# Altium footprint library Relay Module.PcbLib: 8 footprints
Each footprint in its own frame and in the unit in brackets; x right, y up, seen from the top. Pads: shape width x height; smd on the part's side, far side on the other; paste and mask are expansions set on the pad; w line width, h text height; cw(c..) or ccw(c..) is an arc to the next point about the centre after c.
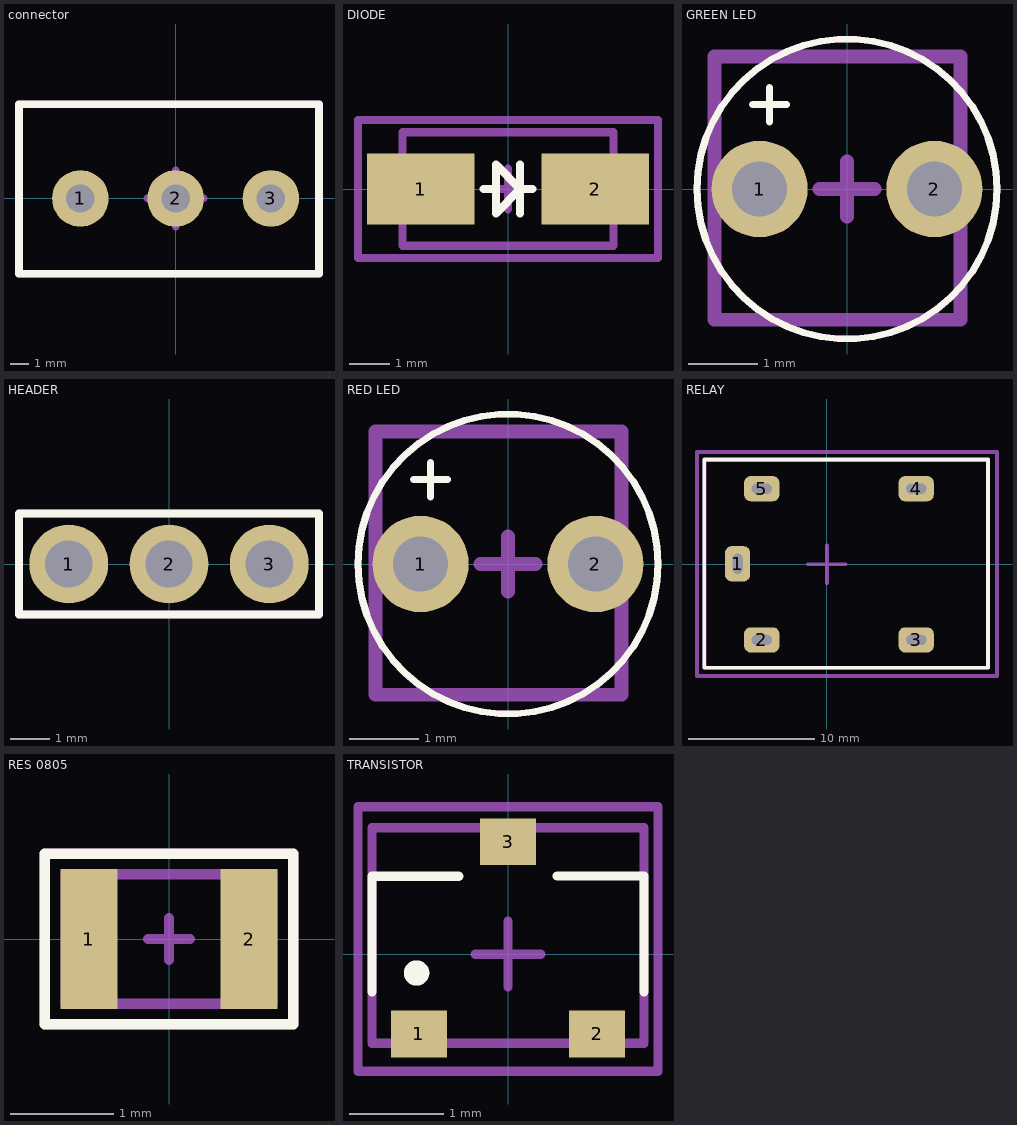
[diagram p0: the footprints below, top view; thin cyan lines are the x and y axes]

## connector [mm]
pads (3):
  round 3 hole 1.5 mask+0.05: 1(-5.05,0) 2(0,0) 3(5.05,0)
Top Overlay:
  lines w0.4: -8.3,-4 -8.3,5 7.6,5 7.6,-4 -8.3,-4
Top 3D Body:
  lines w0.4: -8.3,-4 7.6,-4 7.6,5 -8.3,5 -8.3,-4
Top Component Center:
  lines w0.4: -1.5,0 0,0 ; 0,-1.5 0,0 ; 0,1.5 0,0 ; 1.5,0 0,0 ; -8.3,-4 7.6,-4 7.6,5 -8.3,5 -8.3,-4
Top Designator:
  lines w0.4: -8.3,-4 7.6,-4 7.6,5 -8.3,5 -8.3,-4
  text ".Designator" at 0.4,-0.634 h2
3D body "User Library-OSTTA034163.STEP": height 13, standoff -4, extent -8.32,-4 7.62,5

## DIODE [mm]
pads (2):
  rect 2.65x1.75 smd mask+0.05: 1(-2.15,0) 2(2.15,0)
Top Overlay:
  lines w0.2: -0.6,0 -0.3,0 ; 0.3,-0.6 0.3,0 ; 0.6,0 0.3,0 ; -0.3,0 -0.3,0.6 0.3,0 ; -0.3,0 -0.3,-0.6 0.3,0 ; 0.3,0 0.3,0.6 0.3,0
Top 3D Body:
  lines w0.2: -2.6,-1.4 2.6,-1.4 2.6,1.4 -2.6,1.4 -2.6,-1.4
Top Component Center:
  lines w0.2: -0.5,0 0,0 ; 0,-0.5 0,0 ; 0,0.5 0,0 ; 0.5,0 0,0 ; -3.7,-1.7 -3.7,1.7 3.7,1.7 3.7,-1.7 -3.7,-1.7
Top Designator:
  lines w0.2: -3.7,-1.7 3.7,-1.7 3.7,1.7 -3.7,1.7 -3.7,-1.7
  text ".Designator" at -0.6,-0.6 h1.5
3D body "S1A.STEP": height 2.5, standoff 0, extent -2.6,-1.362 2.6,1.362

## GREEN LED [mm]
pads (2):
  round 1.4 hole 0.8 mask+0.05: 1(-1.27,0) 2(1.27,0)
Top Overlay:
  circle w0.1: c0,0 r2.178
  lines w0.1: -1.375,1.225 -0.875,1.225 ; -1.125,0.975 -1.125,1.475
Top 3D Body:
  lines w0.2: -1.925,-1.9 -1.925,1.925 1.65,1.925 1.65,-1.9 -1.925,-1.9
Top Component Center:
  circle w0.1: c0,0 r2.178
  lines w0.2: -0.4,0 0,0 ; 0,-0.4 0,0 ; 0,0.4 0,0 ; 0.4,0 0,0
Top Designator:
  circle w0.1: c0,0 r2.178
  text ".Designator" at -1,-0.675 h1.5
3D body "Download_STP_WL-TMRC-3mm_rev1.stp": height 5.3, standoff -26.4, extent -1.925,-1.917 1.645,1.917

## HEADER [mm]
pads (3):
  round 2 hole 1.2 mask+0.05: 1(-2.54,0) 2(0,0) 3(2.54,0)
Top Overlay:
  lines w0.2: -3.8,-1.275 3.8,-1.275 ; -3.8,-1.275 -3.8,1.275 ; -3.8,-1.275 3.8,-1.275 ; -3.8,-1.275 -3.8,1.275 ; -3.8,1.275 3.8,1.275 ; -3.8,1.275 3.8,1.275 ; 3.8,-1.275 3.8,1.275
Top 3D Body:
  lines w0.2: -3.8,-1.275 3.8,-1.275 3.8,1.275 -3.8,1.275 -3.8,-1.275
Top Component Center:
  lines w0.2: -0.675,0 0,0 ; 0,-0.675 0,0 ; 0,0.675 0,0 ; 0.675,0 0,0 ; -3.8,-1.275 3.8,-1.275 3.8,1.275 -3.8,1.275 -3.8,-1.275
Top Designator:
  lines w0.2: -3.8,-1.275 -3.8,1.275 3.8,1.275 3.8,-1.275 -3.8,-1.275
  text ".Designator" at 0.075,-0.367 h1
3D body "61300311121_Download_STP_61300311121_rev1.stp": height 8.57, standoff -2.97, extent -3.81,-1.27 3.81,1.27

## RED LED [mm]
pads (2):
  round 1.4 hole 0.8 mask+0.05: 1(-1.27,0) 2(1.27,0)
Top Overlay:
  circle w0.1: c0,0 r2.178
  lines w0.1: -1.375,1.225 -0.875,1.225 ; -1.125,0.975 -1.125,1.475
Top 3D Body:
  lines w0.2: -1.925,-1.9 -1.925,1.925 1.65,1.925 1.65,-1.9 -1.925,-1.9
Top Component Center:
  circle w0.1: c0,0 r2.178
  lines w0.2: -0.4,0 0,0 ; 0,-0.4 0,0 ; 0,0.4 0,0 ; 0.4,0 0,0
Top Designator:
  circle w0.1: c0,0 r2.178
  text ".Designator" at -1,-0.675 h1.5
3D body "Download_STP_WL-TMRC-3mm_rev1.stp": height 5.3, standoff -26.4, extent -1.925,-1.917 1.645,1.917

## RELAY [mm]
pads (5):
  rrect50% 2x2.8 hole 0.8 slot 1.6 at 90 deg mask+0.05: 1(-7.1,0.038)
  rrect50% 2.8x2 hole 0.8 slot 1.6 at 0 deg mask+0.05: 2(-5.175,-6.013) 3(7.1,-6.013) 4(7.1,6.013) 5(-5.175,6.013)
Top Overlay:
  lines w0.3: -9.75,-8.225 -9.75,8.325 12.8,8.325 12.8,-8.225 -9.75,-8.225
Top 3D Body:
  lines w0.3: -9.725,-8.225 -9.725,8.3 12.8,8.3 12.8,-8.225 -9.725,-8.225
Top Component Center:
  lines w0.3: -1.5,0 0,0 ; 0,-1.5 0,0 ; 0,1.5 0,0 ; 1.5,0 0,0 ; -10.325,-8.875 -10.325,8.925 13.525,8.925 13.525,-8.875 -10.325,-8.875
Top Designator:
  lines w0.3: -10.325,-8.875 -10.325,8.925 13.525,8.925 13.525,-8.875 -10.325,-8.875
  text ".Designator" at -1.05,-2.242 h4
3D body "G5LE-1 DC5--3DModel-STEP-1.STEP": height 19, standoff -3.5, extent -9.675,-8.213 12.825,8.287

## RES 0805 [mm]
pads (2):
  rect 0.55x1.35 smd mask+0.05: 1(-0.775,0) 2(0.775,0)
Top Overlay:
  lines w0.1: -1.2,-0.825 -1.2,0.825 1.2,0.825 1.2,-0.825 -1.2,-0.825
Top 3D Body:
  lines w0.1: -1,-0.625 -1,0.625 1,0.625 1,-0.625 -1,-0.625
Top Component Center:
  lines w0.1: -0.2,0 0,0 ; 0,-0.2 0,0 ; 0,0.2 0,0 ; 0.2,0 0,0 ; -1.2,-0.825 -1.2,0.825 1.2,0.825 1.2,-0.825 -1.2,-0.825
Top Designator:
  lines w0.1: -1.2,-0.825 -1.2,0.825 1.2,0.825 1.2,-0.825 -1.2,-0.825
  text ".Designator" at -0.295,-0.295 h0.6
3D body "RC0805FR-07100RL.step": height 0.6, standoff 0, extent -1,-0.625 1,0.625

## TRANSISTOR [mm]
pads (3):
  rect 0.6x0.5 smd mask+0.05: 1(-0.95,-0.85) 2(0.95,-0.85) 3(0,1.2)
Top Overlay:
  circle w0.2: c-0.975,-0.2 r0.035
  lines w0.1: -1.45,-0.4 -1.45,0.832 -0.525,0.832 ; 0.525,0.835 1.45,0.835 1.45,-0.4
Top 3D Body:
  lines w0.1: -1.45,-0.95 -1.45,1.35 1.45,1.35 1.45,-0.95 -1.45,-0.95
Top Component Center:
  lines w0.1: -0.35,0 0,0 ; 0,-0.35 0,0 ; 0,0.35 0,0 ; 0.35,0 0,0 ; -1.6,-1.25 -1.6,1.575 1.6,1.575 1.6,-1.25 -1.6,-1.25
Top Designator:
  lines w0.1: -1.6,-1.25 1.6,-1.25 1.6,1.575 -1.6,1.575 -1.6,-1.25
  text ".Designator" at -0.525,-0.192 h1
3D body "PMBT2222A,215.STEP": height 1.1, standoff 0, extent -1.45,-0.95 1.45,1.35